# Altium integrated library Mouting Hole.IntLib: 1 symbol
Pins are listed as number, name and electrical type; pins without a type are passive.

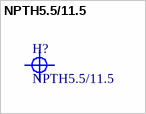
[diagram p0: symbol NPTH5.5/11.5]

## NPTH5.5/11.5
designator H?  (no BOM)
5.5mm diameter hole, 11.5mm soldermask opening
footprint NPTH5.5/11.5 (5.5mm diameter hole, 11.5mm soldermask opening)